# EAGLE library part MOTEINO_SIMPLE (library Moteino)
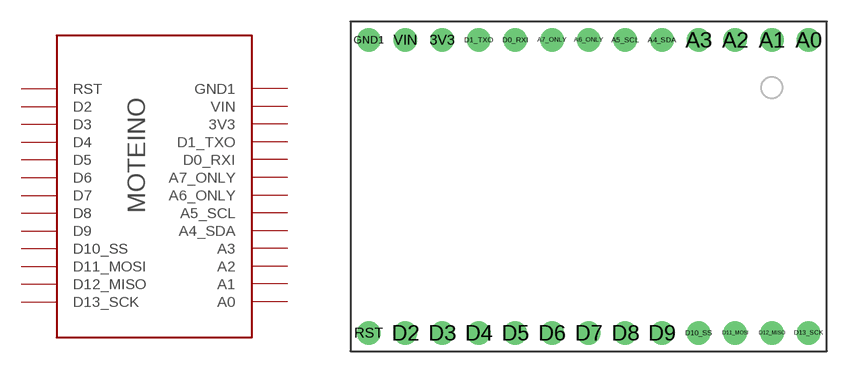
[diagram p1: symbol with the pads of MOTEINO_SIMPLE; footprint MOTEINO_SIMPLE]

Designator prefix -

## MOTEINO_SIMPLE  [MOTEINO_SIMPLE]
3V3  3V3
A0  A0
A1  A1
A2  A2
A3  A3
A4_SDA  A4_SDA
A5_SCL  A5_SCL
A6_ONLY  A6_ONLY
A7_ONLY  A7_ONLY
D0_RXI  D0_RXI
D1_TXO  D1_TXO
D2  D2
D3  D3
D4  D4
D5  D5
D6  D6
D7  D7
D8  D8
D9  D9
D10_SS  D10_SS
D11_MOSI  D11_MOSI
D12_MISO  D12_MISO
D13_SCK  D13_SCK
GND1  GND1
RST  RST
VIN  VIN

## Footprint MOTEINO_SIMPLE (pad centres in mm)
drill 1.016 pad 1.626: 3V3 -10.16,10.16; A0 15.24,10.16; A1 12.7,10.16; A2 10.16,10.16; A3 7.62,10.16; A4_SDA 5.08,10.16; A5_SCL 2.54,10.16; A6_ONLY 0,10.16; A7_ONLY -2.54,10.16; D0_RXI -5.08,10.16; D1_TXO -7.62,10.16; D2 -12.7,-10.16; D3 -10.16,-10.16; D4 -7.62,-10.16; D5 -5.08,-10.16; D6 -2.54,-10.16; D7 0,-10.16; D8 2.54,-10.16; D9 5.08,-10.16; D10_SS 7.62,-10.16; D11_MOSI 10.16,-10.16; D12_MISO 12.7,-10.16; D13_SCK 15.24,-10.16; GND1 -15.24,10.16; RST -15.24,-10.16; VIN -12.7,10.16